# EAGLE library part EASYRIDER_CONN (library connector_easyrider)
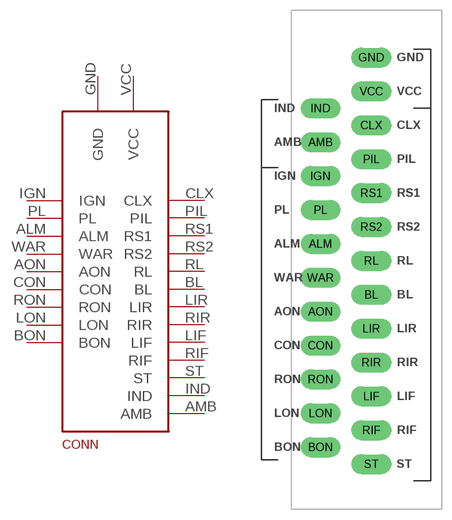
[diagram p0: symbol with the pads of SIL; footprint SIL]

Designator prefix CONN

## EASYRIDER_CONNDIP  [SIL]
ALM  ALM
AMB  AMB
AON  AON
BL  BL
BON  BON
CLX  CLX
CON  CON
GND  GND
IGN  IGN
IND  IND
LIF  LIF
LIR  LIR
LON  LON
PIL  PIL
PL  PL
RIF  RIF
RIR  RIR
RL  RL
RON  RON
RS1  RS1
RS2  RS2
ST  ST
VCC  VCC
WAR  WAR

## Footprint SIL (pad centres in mm)
drill 1.88 pad 3 long: ALM -7.62,33.02; AMB -7.62,48.26; AON -7.62,22.86; BL 0,25.4; BON -7.62,2.54; CLX 0,50.8; CON -7.62,17.78; GND 0,60.96; IGN -7.62,43.18; IND -7.62,53.34; LIF 0,10.16; LIR 0,20.32; LON -7.62,7.62; PIL 0,45.72; PL -7.62,38.1; RIF 0,5.08; RIR 0,15.24; RL 0,30.48; RON -7.62,12.7; RS1 0,40.64; RS2 0,35.56; ST 0,0; VCC 0,55.88; WAR -7.62,27.94